# EAGLE library part 749020020 (library Wurth Electronics Midcom Inc V1-0)
Package Style: Gigabit, 2 Port, STR, STD Mounting: SMD Pins: 48 pins Header: 250-1016 Best pinouts for production vary per application. Please contact Wurth Electronics Midcom, Inc. for assistance with your custom design. Datasheet: 749020020 <http://katalog.we-online.de/kataloge/eisos/media/pdf/749020020A.pdf> Website: Wurth Electronics Midcom <http://www.we-online.com/midcom> Contact us Wurth Electronics Midcom, Inc. 121 Airport Dr. Watertown, SD 57201 Phone: (605) 886-4385 Fax: (605) 886-4486 E-Mail: midcom@we-online.com
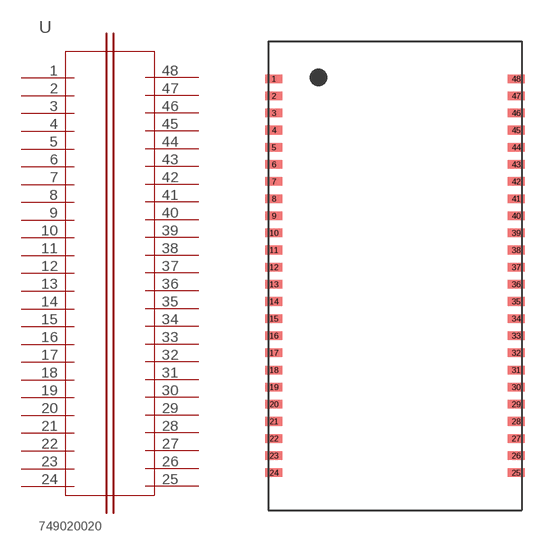
[diagram p195: symbol with the pads of 01STANDARD_LAN_1000BT_2PORT_250-1016; footprint 01STANDARD_LAN_1000BT_2PORT_250-1016]

Designator prefix -

## 749020020  [01STANDARD_LAN_1000BT_2PORT_250-1016]
1  1  pas
2  2  pas
3  3  pas
4  4  pas
5  5  pas
6  6  pas
7  7  pas
8  8  pas
9  9  pas
10  10  pas
11  11  pas
12  12  pas
13  13  pas
14  14  pas
15  15  pas
16  16  pas
17  17  pas
18  18  pas
19  19  pas
20  20  pas
21  21  pas
22  22  pas
23  23  pas
24  24  pas
25  48  pas
26  47  pas
27  46  pas
28  45  pas
29  44  pas
30  43  pas
31  42  pas
32  41  pas
33  40  pas
34  39  pas
35  38  pas
36  37  pas
37  36  pas
38  35  pas
39  34  pas
40  33  pas
41  32  pas
42  31  pas
43  30  pas
44  29  pas
45  28  pas
46  27  pas
47  26  pas
48  25  pas

## Footprint 01STANDARD_LAN_1000BT_2PORT_250-1016 (pad centres in mm)
Package Style: 1000BT 2 Port Mounting: SMD Pins: 48 Header: 250-1016
smd 1.016 x 0.508: 1 -7.176,11.684; 2 -7.176,10.668; 3 -7.176,9.652; 4 -7.176,8.636; 5 -7.176,7.62; 6 -7.176,6.604; 7 -7.176,5.588; 8 -7.176,4.572; 9 -7.176,3.556; 10 -7.176,2.54; 11 -7.176,1.524; 12 -7.176,0.508; 13 -7.176,-0.508; 14 -7.176,-1.524; 15 -7.176,-2.54; 16 -7.176,-3.556; 17 -7.176,-4.572; 18 -7.176,-5.588; 19 -7.176,-6.604; 20 -7.176,-7.62; 21 -7.176,-8.636; 22 -7.176,-9.652; 23 -7.176,-10.668; 24 -7.176,-11.684; 25 7.176,-11.684; 26 7.176,-10.668; 27 7.176,-9.652; 28 7.176,-8.636; 29 7.176,-7.62; 30 7.176,-6.604; 31 7.176,-5.588; 32 7.176,-4.572; 33 7.176,-3.556; 34 7.176,-2.54; 35 7.176,-1.524; 36 7.176,-0.508; 37 7.176,0.508; 38 7.176,1.524; 39 7.176,2.54; 40 7.176,3.556; 41 7.176,4.572; 42 7.176,5.588; 43 7.176,6.604; 44 7.176,7.62; 45 7.176,8.636; 46 7.176,9.652; 47 7.176,10.668; 48 7.176,11.684